# Altium integrated library Microchip PIC12.IntLib: 457 symbols (part 5 of 15)
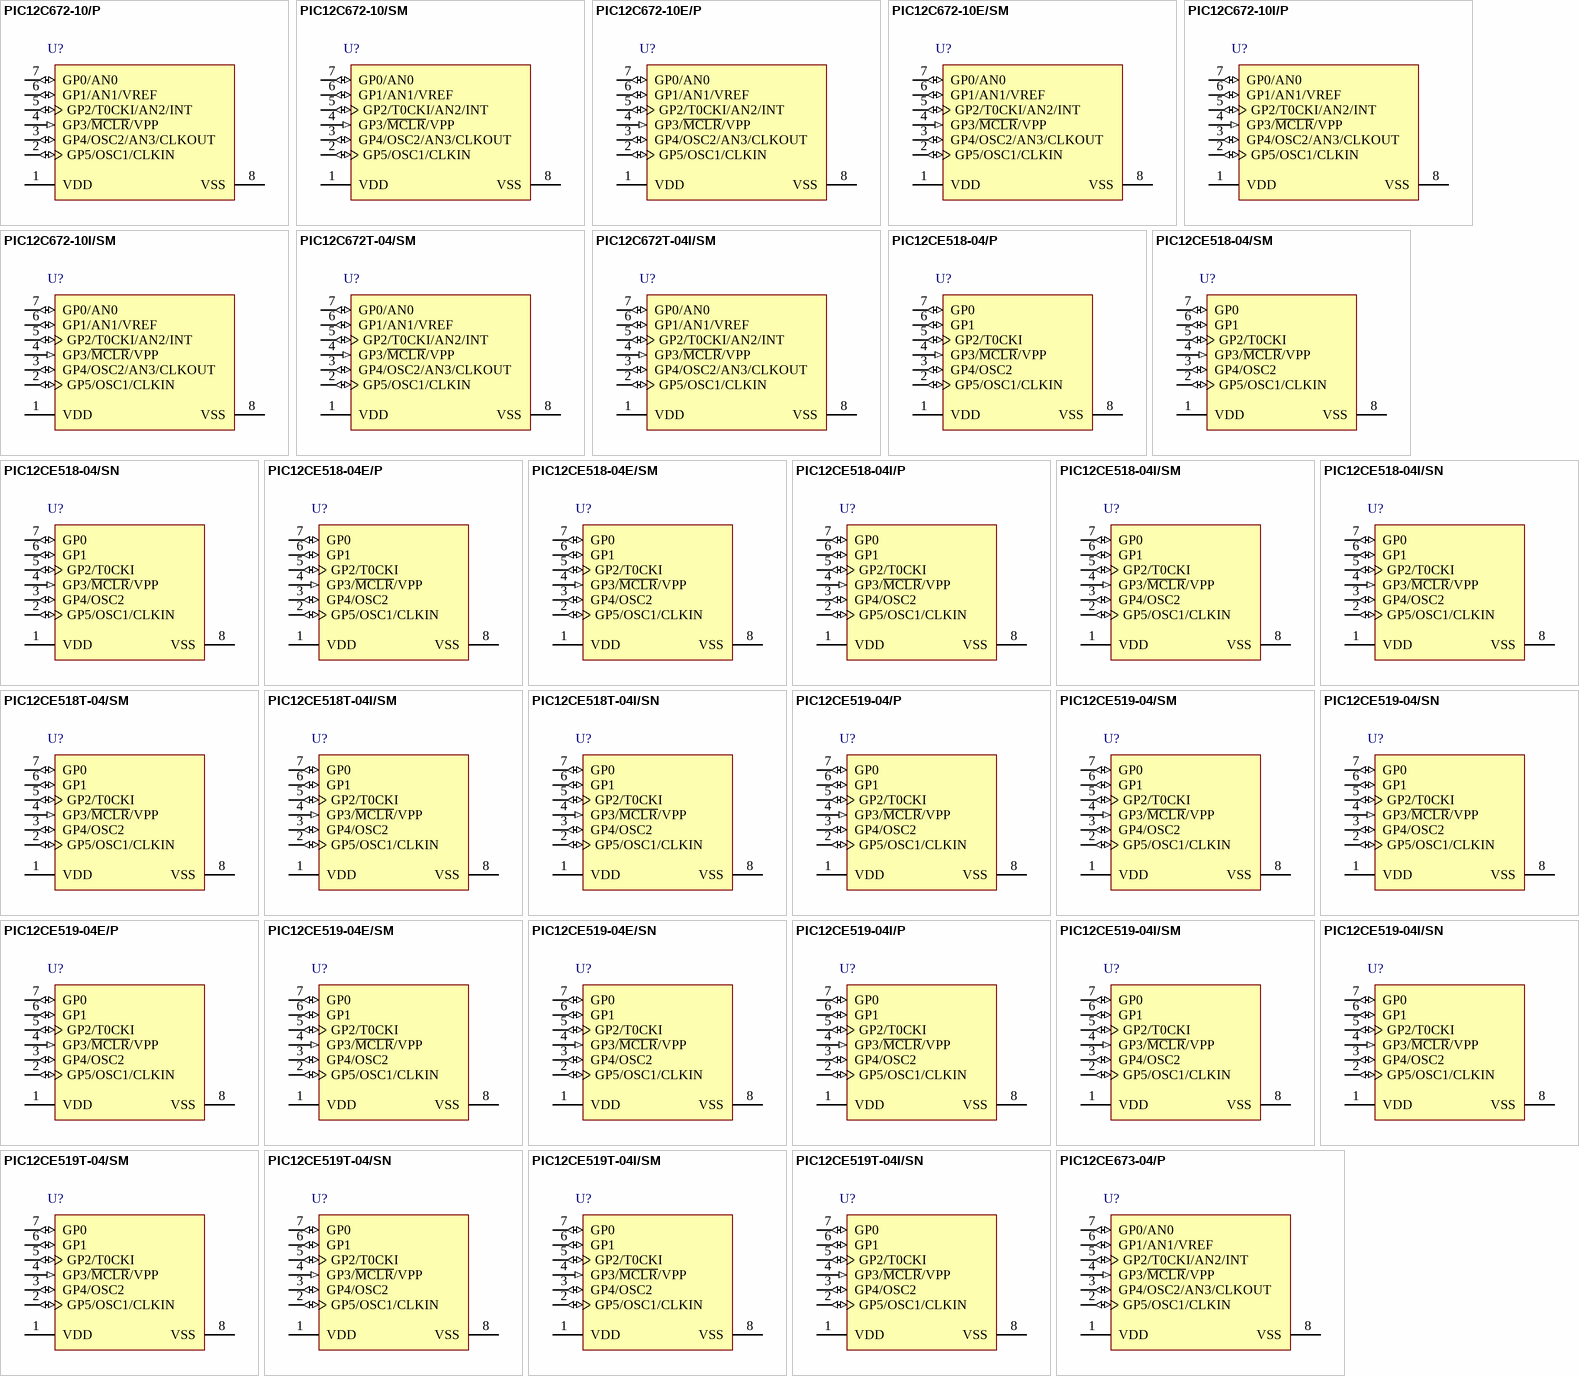
[diagram p19: symbols PIC12C672-10/P to PIC12CE673-04/P]

## PIC12CE519T-04I/SM
designator U?
8-Bit CMOS Microcontroller, 4 MHz, 5 I/O, -40 to 85 degC, 8-pin SOIC (SM8), Tape and Reel; Manufacturer: Microchip; PartNumber: PIC12CE519T-04I/SM; Digital Communication: 0 -UART, 0 -A/E/USART, 0 -SPI, 0 -I2C; EEPROM Data Memory (bytes): 16; I/O Pins: 5; Max. CPU Speed MHz: 4; Memory Type: OTP; Operation Voltage Range: 3V - 5.5V; Packing: T/R; Program Memory KBytes: 1.5; Program Memory KWords: 1; RAM: 41; Timers: 1 - 8-bit; DatasheetVersion: Rev. E; PackageVersion: C04-056C, 12/2012; PackageReference: SOIC-SM8; PackageDescription: 8-Lead Plastic Small Outline, 5.26 x 5.25 mm Body, 1.27 mm Pitch; Supplier 1: Digi-Key; Supplier Part Number 1: PIC12CE519T-04ISM-ND; Supplier 2: Mouser; Supplier Part Number 2: 579-12CE519T-04I/SM; RoHS: TRUE; Mounting Technology: Surface Mount; ComponentLink1Description: Datasheet; ComponentLink1URL: http://ww1.microchip.com/downloads/en/DeviceDoc/40139e.pdf; ComponentLink2Description: Package Specification; ComponentLink2URL: http://www.microchip.com/stellent/groups/techpub_sg/documents/packagingspec/en012702.pdf; ComponentLink3Description: URL Link1; ComponentLink3URL: Product URL:http://www.microchip.com/datasheet/PIC12CE519
footprint MCHP-SOIC-SM8_N (SOIC, 8-Leads, Body 5.26x5.25mm, Pitch 1.27mm, IPC Medium Density)
footprint MCHP-SOIC-SM8_L (SOIC, 8-Leads, Body 5.26x5.25mm, Pitch 1.27mm, IPC High Density)
footprint MCHP-SOIC-SM8_M (SOIC, 8-Leads, Body 5.26x5.25mm, Pitch 1.27mm, IPC Low Density)
pins: 1 VDD (power) "Positive supply for logic and I/O pins", 2 GP5/OSC1/CLKIN (io), 3 GP4/OSC2 (io), 4 GP3/~{MCLR}/VPP (in), 5 GP2/T0CKI (io), 6 GP1 (io) "Bi-directional I/O port/ serial programming clock. Can be software programmed for internal weak pull-up and wake-up from SLEEP on pin change. This buffer is a Schmitt Trigger input when used in serial programming mode.", 7 GP0 (io) "Bi-directional I/O port/ serial programming data. Can be software programmed for internal weak pull-up and wake-up from SLEEP on pin change. This buffer is a Schmitt Trigger input when used in serial programming mode.", 8 VSS (power) "Ground reference for logic and I/O pins"

## PIC12CE519T-04I/SN
designator U?
8-Bit CMOS Microcontroller, 4 MHz, 5 I/O, -40 to 85 degC, 8-pin SOIC (SN8), Tape and Reel; Manufacturer: Microchip; PartNumber: PIC12CE519T-04I/SN; Digital Communication: 0 -UART, 0 -A/E/USART, 0 -SPI, 0 -I2C; EEPROM Data Memory (bytes): 16; I/O Pins: 5; Max. CPU Speed MHz: 4; Memory Type: OTP; Operation Voltage Range: 3V - 5.5V; Packing: T/R; Program Memory KBytes: 1.5; Program Memory KWords: 1; RAM: 41; Timers: 1 - 8-bit; DatasheetVersion: Rev. E; PackageVersion: C04-057C, 12/2012; PackageReference: SOIC-SN8; PackageDescription: 8-Lead Plastic Small Outline, 4.9 x 3.9 mm Body, 1.27 mm Pitch; Supplier 1: Digi-Key; Supplier Part Number 1: PIC12CE519T-04ISN-ND; Supplier 2: Mouser; Supplier Part Number 2: 579-12CE519T-04I/SN; RoHS: TRUE; Mounting Technology: Surface Mount; ComponentLink1Description: Datasheet; ComponentLink1URL: http://ww1.microchip.com/downloads/en/DeviceDoc/40139e.pdf; ComponentLink2Description: Package Specification; ComponentLink2URL: http://www.microchip.com/stellent/groups/techpub_sg/documents/packagingspec/en012702.pdf; ComponentLink3Description: URL Link1; ComponentLink3URL: Product URL:http://www.microchip.com/datasheet/PIC12CE519
footprint MCHP-SOIC-SN8_N (SOIC, 8-Leads, Body 4.9x3.9mm, Pitch 1.27mm, IPC Medium Density)
footprint MCHP-SOIC-SN8_L (SOIC, 8-Leads, Body 4.9x3.9mm, Pitch 1.27mm, IPC High Density)
footprint MCHP-SOIC-SN8_M (SOIC, 8-Leads, Body 4.9x3.9mm, Pitch 1.27mm, IPC Low Density)
pins: 1 VDD (power) "Positive supply for logic and I/O pins", 2 GP5/OSC1/CLKIN (io), 3 GP4/OSC2 (io), 4 GP3/~{MCLR}/VPP (in), 5 GP2/T0CKI (io), 6 GP1 (io) "Bi-directional I/O port/ serial programming clock. Can be software programmed for internal weak pull-up and wake-up from SLEEP on pin change. This buffer is a Schmitt Trigger input when used in serial programming mode.", 7 GP0 (io) "Bi-directional I/O port/ serial programming data. Can be software programmed for internal weak pull-up and wake-up from SLEEP on pin change. This buffer is a Schmitt Trigger input when used in serial programming mode.", 8 VSS (power) "Ground reference for logic and I/O pins"

## PIC12CE673-04/P
designator U?
8-Bit CMOS Microcontroller with A/D Converter and EEPROM Data Memory, 4 MHz, 5 I/O, 0 to 70 degC, 8-pin PDIP (P8), Tube; Manufacturer: Microchip; PartNumber: PIC12CE673-04/P; # of A/D Channels: 4; Digital Communication: 0 -UART, 0 -A/E/USART, 0 -SPI, 0 -I2C; EEPROM Data Memory (bytes): 16; I/O Pins: 5; Internal Oscillator: 4 MHz; Memory Type: Flash; Operation Voltage Range: 3V - 5.5V; Program Memory KBytes: 1.75; Program Memory KWords: 1; RAM: 128; Timers: 1 - 8-bit, 0 - 16-bit; DatasheetVersion: Rev. C; PackageVersion: C04-018B, 12/2012; PackageReference: PDIP-P8; PackageDescription: 8-Lead Plastic Dual In-Line, Row Spacing 7.62 mm, 9.5 x 6.6 mm Body, 2.54 mm Pitch; Supplier 1: Digi-Key; Supplier Part Number 1: PIC12CE673-04/P-ND; Supplier 2: Farnell; Supplier Part Number 2: 9758968; Supplier 3: Newark; Supplier Part Number 3: 23C2916; Supplier 4: Mouser; Supplier Part Number 4: 579-PIC12CE673-04/P; Max. CPU Speed MHz: 4; Packing: TUBE; RoHS: TRUE; Mounting Technology: Through Hole; ComponentLink1Description: Datasheet; ComponentLink1URL: http://ww1.microchip.com/downloads/en/DeviceDoc/30561C.pdf; ComponentLink2Description: Package Specification; ComponentLink2URL: http://www.microchip.com/stellent/groups/techpub_sg/documents/packagingspec/en012702.pdf; ComponentLink3Description: URL Link1; ComponentLink3URL: Product URL:http://www.microchip.com/datasheet/PIC12CE673
footprint MCHP-PDIP-P8 (PDIP, 8-Leads, Body 9.5x6.604mm, Pitch 2.54mm)
pins: 1 VDD (power) "Positive supply for logic and I/O pins.", 2 GP5/OSC1/CLKIN (io), 3 GP4/OSC2/AN3/CLKOUT (io), 4 GP3/~{MCLR}/VPP (in), 5 GP2/T0CKI/AN2/INT (io), 6 GP1/AN1/VREF (io), 7 GP0/AN0 (io), 8 VSS (power) "Ground reference for logic and I/O pins."

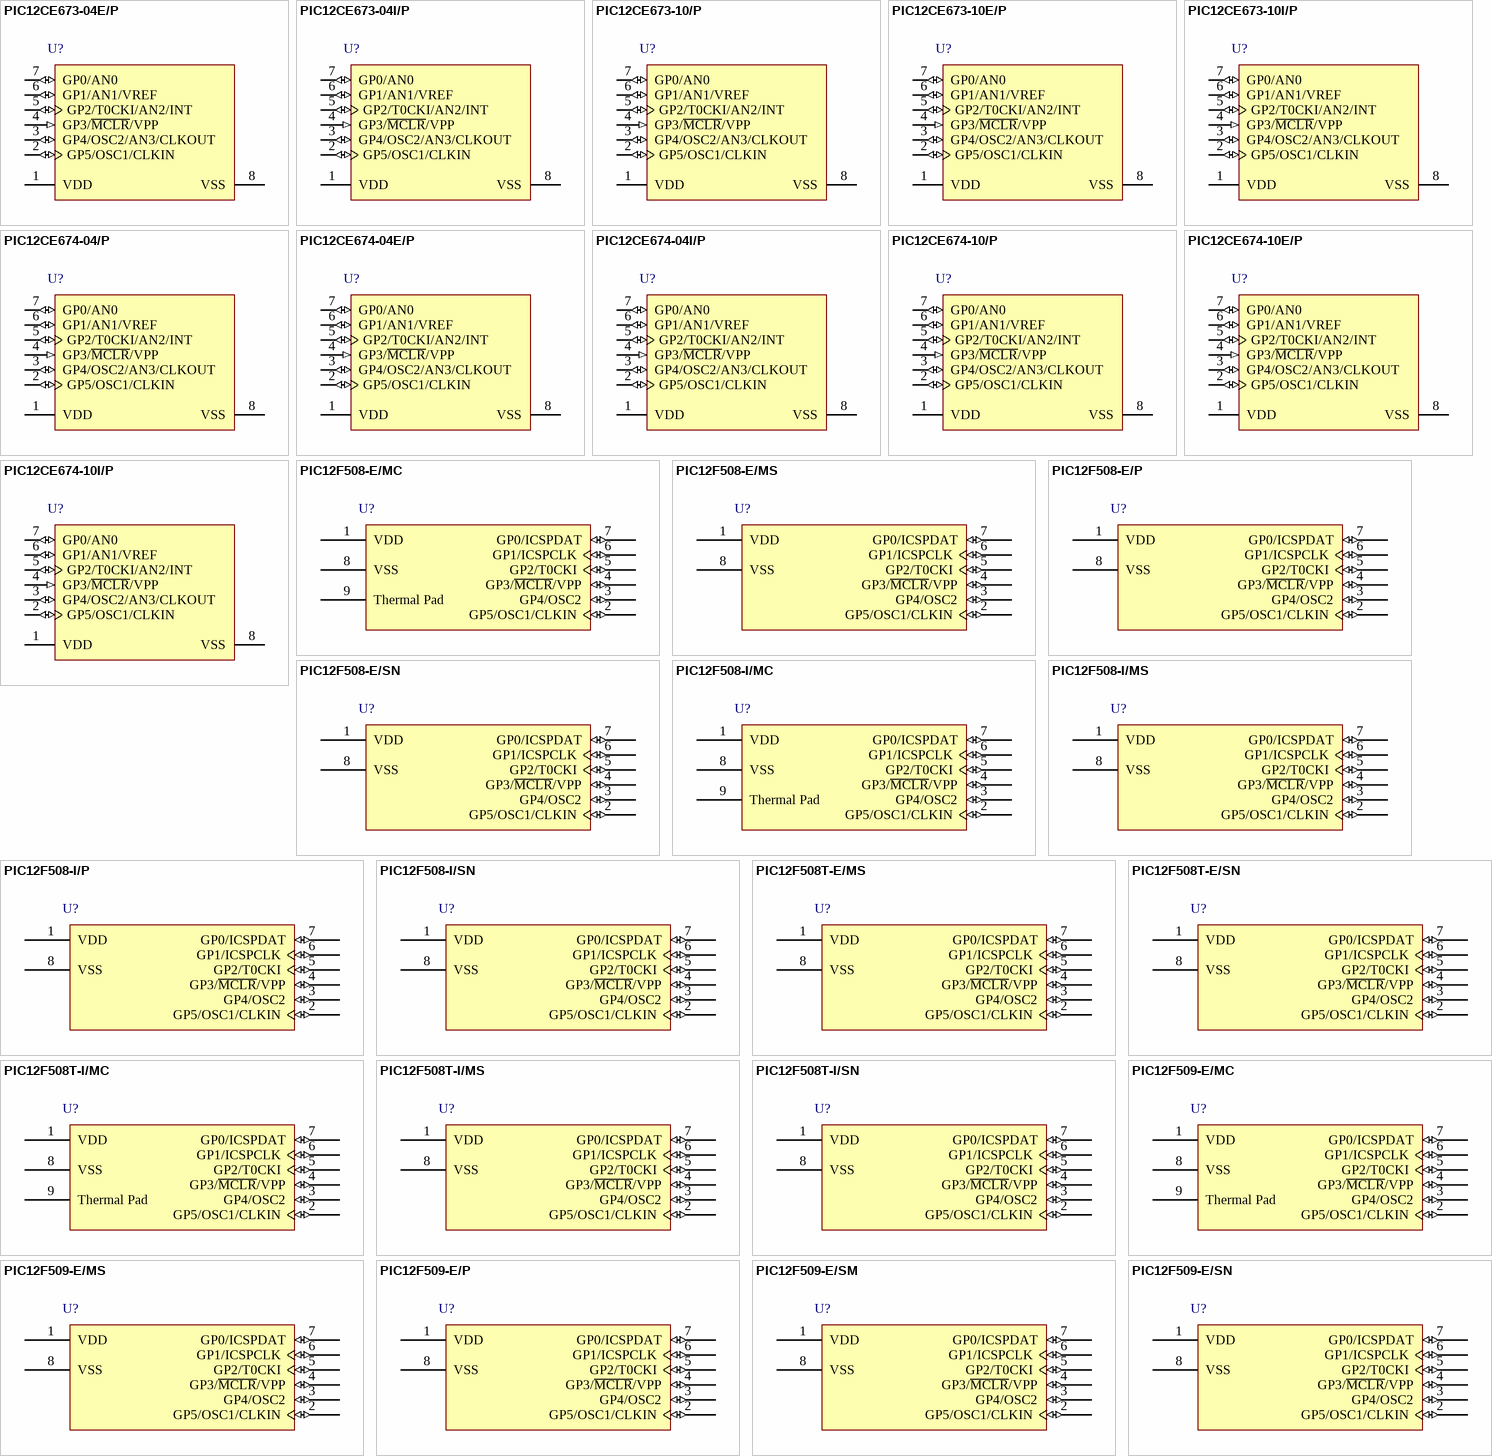
[diagram p3: symbols PIC12CE673-04E/P to PIC12F509-E/SN]

## PIC12CE673-04E/P
designator U?
8-Bit CMOS Microcontroller with A/D Converter and EEPROM Data Memory, 4 MHz, 5 I/O, -40 to 125 degC, 8-pin PDIP (P8), Tube; Manufacturer: Microchip; PartNumber: PIC12CE673-04E/P; # of A/D Channels: 4; Digital Communication: 0 -UART, 0 -A/E/USART, 0 -SPI, 0 -I2C; EEPROM Data Memory (bytes): 16; I/O Pins: 5; Internal Oscillator: 4 MHz; Memory Type: Flash; Operation Voltage Range: 3V - 5.5V; Program Memory KBytes: 1.75; Program Memory KWords: 1; RAM: 128; Timers: 1 - 8-bit, 0 - 16-bit; DatasheetVersion: Rev. C; PackageVersion: C04-018B, 12/2012; PackageReference: PDIP-P8; PackageDescription: 8-Lead Plastic Dual In-Line, Row Spacing 7.62 mm, 9.5 x 6.6 mm Body, 2.54 mm Pitch; Supplier 1: Digi-Key; Supplier Part Number 1: PIC12CE673-04E/P-ND; Supplier 2: Mouser; Supplier Part Number 2: 579-PIC12CE673-04E/P; Max. CPU Speed MHz: 4; Packing: TUBE; RoHS: TRUE; Mounting Technology: Through Hole; ComponentLink1Description: Datasheet; ComponentLink1URL: http://ww1.microchip.com/downloads/en/DeviceDoc/30561C.pdf; ComponentLink2Description: Package Specification; ComponentLink2URL: http://www.microchip.com/stellent/groups/techpub_sg/documents/packagingspec/en012702.pdf; ComponentLink3Description: URL Link1; ComponentLink3URL: Product URL:http://www.microchip.com/datasheet/PIC12CE673
footprint MCHP-PDIP-P8 (PDIP, 8-Leads, Body 9.5x6.604mm, Pitch 2.54mm)
pins: 1 VDD (power) "Positive supply for logic and I/O pins.", 2 GP5/OSC1/CLKIN (io), 3 GP4/OSC2/AN3/CLKOUT (io), 4 GP3/~{MCLR}/VPP (in), 5 GP2/T0CKI/AN2/INT (io), 6 GP1/AN1/VREF (io), 7 GP0/AN0 (io), 8 VSS (power) "Ground reference for logic and I/O pins."

## PIC12CE673-04I/P
designator U?
8-Bit CMOS Microcontroller with A/D Converter and EEPROM Data Memory, 4 MHz, 5 I/O, -40 to 85 degC, 8-pin PDIP (P8), Tube; Manufacturer: Microchip; PartNumber: PIC12CE673-04I/P; # of A/D Channels: 4; Digital Communication: 0 -UART, 0 -A/E/USART, 0 -SPI, 0 -I2C; EEPROM Data Memory (bytes): 16; I/O Pins: 5; Internal Oscillator: 4 MHz; Memory Type: Flash; Operation Voltage Range: 3V - 5.5V; Program Memory KBytes: 1.75; Program Memory KWords: 1; RAM: 128; Timers: 1 - 8-bit, 0 - 16-bit; DatasheetVersion: Rev. C; PackageVersion: C04-018B, 12/2012; PackageReference: PDIP-P8; PackageDescription: 8-Lead Plastic Dual In-Line, Row Spacing 7.62 mm, 9.5 x 6.6 mm Body, 2.54 mm Pitch; Supplier 1: Digi-Key; Supplier Part Number 1: PIC12CE673-04I/P-ND; Supplier 2: Farnell; Supplier Part Number 2: 1084242; Supplier 3: Newark; Supplier Part Number 3: 24M5838; Supplier 4: Mouser; Supplier Part Number 4: 579-PIC12CE673-04I/P; Max. CPU Speed MHz: 4; Packing: TUBE; RoHS: TRUE; Mounting Technology: Through Hole; ComponentLink1Description: Datasheet; ComponentLink1URL: http://ww1.microchip.com/downloads/en/DeviceDoc/30561C.pdf; ComponentLink2Description: Package Specification; ComponentLink2URL: http://www.microchip.com/stellent/groups/techpub_sg/documents/packagingspec/en012702.pdf; ComponentLink3Description: URL Link1; ComponentLink3URL: Product URL:http://www.microchip.com/datasheet/PIC12CE673
footprint MCHP-PDIP-P8 (PDIP, 8-Leads, Body 9.5x6.604mm, Pitch 2.54mm)
pins: 1 VDD (power) "Positive supply for logic and I/O pins.", 2 GP5/OSC1/CLKIN (io), 3 GP4/OSC2/AN3/CLKOUT (io), 4 GP3/~{MCLR}/VPP (in), 5 GP2/T0CKI/AN2/INT (io), 6 GP1/AN1/VREF (io), 7 GP0/AN0 (io), 8 VSS (power) "Ground reference for logic and I/O pins."

## PIC12CE673-10/P
designator U?
8-Bit CMOS Microcontroller with A/D Converter and EEPROM Data Memory, 10 MHz, 5 I/O, 0 to 70 degC, 8-pin PDIP (P8), Tube; Manufacturer: Microchip; PartNumber: PIC12CE673-10/P; # of A/D Channels: 4; Digital Communication: 0 -UART, 0 -A/E/USART, 0 -SPI, 0 -I2C; EEPROM Data Memory (bytes): 16; I/O Pins: 5; Internal Oscillator: 4 MHz; Max. CPU Speed MHz: 10; Memory Type: Flash; Operation Voltage Range: 3V - 5.5V; Program Memory KBytes: 1.75; Program Memory KWords: 1; RAM: 128; Timers: 1 - 8-bit, 0 - 16-bit; DatasheetVersion: Rev. C; PackageVersion: C04-018B, 12/2012; PackageReference: PDIP-P8; PackageDescription: 8-Lead Plastic Dual In-Line, Row Spacing 7.62 mm, 9.5 x 6.6 mm Body, 2.54 mm Pitch; Supplier 1: Digi-Key; Supplier Part Number 1: PIC12CE673-10/P-ND; Supplier 2: Mouser; Supplier Part Number 2: 579-PIC12CE673-10/P; Packing: TUBE; RoHS: TRUE; Mounting Technology: Through Hole; ComponentLink1Description: Datasheet; ComponentLink1URL: http://ww1.microchip.com/downloads/en/DeviceDoc/30561C.pdf; ComponentLink2Description: Package Specification; ComponentLink2URL: http://www.microchip.com/stellent/groups/techpub_sg/documents/packagingspec/en012702.pdf; ComponentLink3Description: URL Link1; ComponentLink3URL: Product URL:http://www.microchip.com/datasheet/PIC12CE673
footprint MCHP-PDIP-P8 (PDIP, 8-Leads, Body 9.5x6.604mm, Pitch 2.54mm)
pins: 1 VDD (power) "Positive supply for logic and I/O pins.", 2 GP5/OSC1/CLKIN (io), 3 GP4/OSC2/AN3/CLKOUT (io), 4 GP3/~{MCLR}/VPP (in), 5 GP2/T0CKI/AN2/INT (io), 6 GP1/AN1/VREF (io), 7 GP0/AN0 (io), 8 VSS (power) "Ground reference for logic and I/O pins."

## PIC12CE673-10E/P
designator U?
8-Bit CMOS Microcontroller with A/D Converter and EEPROM Data Memory, 10 MHz, 5 I/O, -40 to 125 degC, 8-pin PDIP (P8), Tube; Manufacturer: Microchip; PartNumber: PIC12CE673-10E/P; # of A/D Channels: 4; Digital Communication: 0 -UART, 0 -A/E/USART, 0 -SPI, 0 -I2C; EEPROM Data Memory (bytes): 16; I/O Pins: 5; Internal Oscillator: 4 MHz; Max. CPU Speed MHz: 10; Memory Type: Flash; Operation Voltage Range: 3V - 5.5V; Program Memory KBytes: 1.75; Program Memory KWords: 1; RAM: 128; Timers: 1 - 8-bit, 0 - 16-bit; DatasheetVersion: Rev. C; PackageVersion: C04-018B, 12/2012; PackageReference: PDIP-P8; PackageDescription: 8-Lead Plastic Dual In-Line, Row Spacing 7.62 mm, 9.5 x 6.6 mm Body, 2.54 mm Pitch; Supplier 1: Digi-Key; Supplier Part Number 1: PIC12CE673-10E/P-ND; Supplier 2: Mouser; Supplier Part Number 2: 579-PIC12CE673-10E/P; Packing: TUBE; RoHS: TRUE; Mounting Technology: Through Hole; ComponentLink1Description: Datasheet; ComponentLink1URL: http://ww1.microchip.com/downloads/en/DeviceDoc/30561C.pdf; ComponentLink2Description: Package Specification; ComponentLink2URL: http://www.microchip.com/stellent/groups/techpub_sg/documents/packagingspec/en012702.pdf; ComponentLink3Description: URL Link1; ComponentLink3URL: Product URL:http://www.microchip.com/datasheet/PIC12CE673
footprint MCHP-PDIP-P8 (PDIP, 8-Leads, Body 9.5x6.604mm, Pitch 2.54mm)
pins: 1 VDD (power) "Positive supply for logic and I/O pins.", 2 GP5/OSC1/CLKIN (io), 3 GP4/OSC2/AN3/CLKOUT (io), 4 GP3/~{MCLR}/VPP (in), 5 GP2/T0CKI/AN2/INT (io), 6 GP1/AN1/VREF (io), 7 GP0/AN0 (io), 8 VSS (power) "Ground reference for logic and I/O pins."

## PIC12CE673-10I/P
designator U?
8-Bit CMOS Microcontroller with A/D Converter and EEPROM Data Memory, 10 MHz, 5 I/O, -40 to 85 degC, 8-pin PDIP (P8), Tube; Manufacturer: Microchip; PartNumber: PIC12CE673-10I/P; # of A/D Channels: 4; Digital Communication: 0 -UART, 0 -A/E/USART, 0 -SPI, 0 -I2C; EEPROM Data Memory (bytes): 16; I/O Pins: 5; Internal Oscillator: 4 MHz; Max. CPU Speed MHz: 10; Memory Type: Flash; Operation Voltage Range: 3V - 5.5V; Program Memory KBytes: 1.75; Program Memory KWords: 1; RAM: 128; Timers: 1 - 8-bit, 0 - 16-bit; DatasheetVersion: Rev. C; PackageVersion: C04-018B, 12/2012; PackageReference: PDIP-P8; PackageDescription: 8-Lead Plastic Dual In-Line, Row Spacing 7.62 mm, 9.5 x 6.6 mm Body, 2.54 mm Pitch; Supplier 1: Digi-Key; Supplier Part Number 1: PIC12CE673-10I/P-ND; Supplier 2: Mouser; Supplier Part Number 2: 579-PIC12CE673-10I/P; Packing: TUBE; RoHS: TRUE; Mounting Technology: Through Hole; ComponentLink1Description: Datasheet; ComponentLink1URL: http://ww1.microchip.com/downloads/en/DeviceDoc/30561C.pdf; ComponentLink2Description: Package Specification; ComponentLink2URL: http://www.microchip.com/stellent/groups/techpub_sg/documents/packagingspec/en012702.pdf; ComponentLink3Description: URL Link1; ComponentLink3URL: Product URL:http://www.microchip.com/datasheet/PIC12CE673
footprint MCHP-PDIP-P8 (PDIP, 8-Leads, Body 9.5x6.604mm, Pitch 2.54mm)
pins: 1 VDD (power) "Positive supply for logic and I/O pins.", 2 GP5/OSC1/CLKIN (io), 3 GP4/OSC2/AN3/CLKOUT (io), 4 GP3/~{MCLR}/VPP (in), 5 GP2/T0CKI/AN2/INT (io), 6 GP1/AN1/VREF (io), 7 GP0/AN0 (io), 8 VSS (power) "Ground reference for logic and I/O pins."

## PIC12CE674-04/P
designator U?
8-Bit CMOS Microcontroller with A/D Converter and EEPROM Data Memory, 4 MHz, 5 I/O, 0 to 70 degC, 8-pin PDIP (P8), Tube; Manufacturer: Microchip; PartNumber: PIC12CE674-04/P; # of A/D Channels: 4; Digital Communication: 0 -UART, 0 -A/E/USART, 0 -SPI, 0 -I2C; EEPROM Data Memory (bytes): 16; I/O Pins: 5; Internal Oscillator: 4 MHz; Memory Type: Flash; Operation Voltage Range: 3V - 5.5V; Program Memory KBytes: 3.5; Program Memory KWords: 2; RAM: 128; Timers: 1 - 8-bit, 0 - 16-bit; DatasheetVersion: Rev. C; PackageVersion: C04-018B, 12/2012; PackageReference: PDIP-P8; PackageDescription: 8-Lead Plastic Dual In-Line, Row Spacing 7.62 mm, 9.5 x 6.6 mm Body, 2.54 mm Pitch; Supplier 1: Digi-Key; Supplier Part Number 1: PIC12CE674-04/P-ND; Supplier 2: Farnell; Supplier Part Number 2: 9758976; Supplier 3: Newark; Supplier Part Number 3: 23C2923; Supplier 4: Mouser; Supplier Part Number 4: 579-PIC12CE674-04/P; Max. CPU Speed MHz: 4; Packing: TUBE; RoHS: TRUE; Mounting Technology: Through Hole; ComponentLink1Description: Datasheet; ComponentLink1URL: http://ww1.microchip.com/downloads/en/DeviceDoc/30561C.pdf; ComponentLink2Description: Package Specification; ComponentLink2URL: http://www.microchip.com/stellent/groups/techpub_sg/documents/packagingspec/en012702.pdf; ComponentLink3Description: URL Link1; ComponentLink3URL: Product URL:http://www.microchip.com/datasheet/PIC12CE674
footprint MCHP-PDIP-P8 (PDIP, 8-Leads, Body 9.5x6.604mm, Pitch 2.54mm)
pins: 1 VDD (power) "Positive supply for logic and I/O pins.", 2 GP5/OSC1/CLKIN (io), 3 GP4/OSC2/AN3/CLKOUT (io), 4 GP3/~{MCLR}/VPP (in), 5 GP2/T0CKI/AN2/INT (io), 6 GP1/AN1/VREF (io), 7 GP0/AN0 (io), 8 VSS (power) "Ground reference for logic and I/O pins."

## PIC12CE674-04E/P
designator U?
8-Bit CMOS Microcontroller with A/D Converter and EEPROM Data Memory, 4 MHz, 5 I/O, -40 to 125 degC, 8-pin PDIP (P8), Tube; Manufacturer: Microchip; PartNumber: PIC12CE674-04E/P; # of A/D Channels: 4; Digital Communication: 0 -UART, 0 -A/E/USART, 0 -SPI, 0 -I2C; EEPROM Data Memory (bytes): 16; I/O Pins: 5; Internal Oscillator: 4 MHz; Memory Type: Flash; Operation Voltage Range: 3V - 5.5V; Program Memory KBytes: 3.5; Program Memory KWords: 2; RAM: 128; Timers: 1 - 8-bit, 0 - 16-bit; DatasheetVersion: Rev. C; PackageVersion: C04-018B, 12/2012; PackageReference: PDIP-P8; PackageDescription: 8-Lead Plastic Dual In-Line, Row Spacing 7.62 mm, 9.5 x 6.6 mm Body, 2.54 mm Pitch; Supplier 1: Digi-Key; Supplier Part Number 1: PIC12CE674-04E/P-ND; Supplier 2: Mouser; Supplier Part Number 2: 579-PIC12CE674-04E/P; Max. CPU Speed MHz: 4; Packing: TUBE; RoHS: TRUE; Mounting Technology: Through Hole; ComponentLink1Description: Datasheet; ComponentLink1URL: http://ww1.microchip.com/downloads/en/DeviceDoc/30561C.pdf; ComponentLink2Description: Package Specification; ComponentLink2URL: http://www.microchip.com/stellent/groups/techpub_sg/documents/packagingspec/en012702.pdf; ComponentLink3Description: URL Link1; ComponentLink3URL: Product URL:http://www.microchip.com/datasheet/PIC12CE674
footprint MCHP-PDIP-P8 (PDIP, 8-Leads, Body 9.5x6.604mm, Pitch 2.54mm)
pins: 1 VDD (power) "Positive supply for logic and I/O pins.", 2 GP5/OSC1/CLKIN (io), 3 GP4/OSC2/AN3/CLKOUT (io), 4 GP3/~{MCLR}/VPP (in), 5 GP2/T0CKI/AN2/INT (io), 6 GP1/AN1/VREF (io), 7 GP0/AN0 (io), 8 VSS (power) "Ground reference for logic and I/O pins."

## PIC12CE674-04I/P
designator U?
8-Bit CMOS Microcontroller with A/D Converter and EEPROM Data Memory, 4 MHz, 5 I/O, -40 to 85 degC, 8-pin PDIP (P8), Tube; Manufacturer: Microchip; PartNumber: PIC12CE674-04I/P; # of A/D Channels: 4; Digital Communication: 0 -UART, 0 -A/E/USART, 0 -SPI, 0 -I2C; EEPROM Data Memory (bytes): 16; I/O Pins: 5; Internal Oscillator: 4 MHz; Memory Type: Flash; Operation Voltage Range: 3V - 5.5V; Program Memory KBytes: 3.5; Program Memory KWords: 2; RAM: 128; Timers: 1 - 8-bit, 0 - 16-bit; DatasheetVersion: Rev. C; PackageVersion: C04-018B, 12/2012; PackageReference: PDIP-P8; PackageDescription: 8-Lead Plastic Dual In-Line, Row Spacing 7.62 mm, 9.5 x 6.6 mm Body, 2.54 mm Pitch; Supplier 1: Digi-Key; Supplier Part Number 1: PIC12CE674-04I/P-ND; Supplier 2: Farnell; Supplier Part Number 2: 9758984; Supplier 3: Newark; Supplier Part Number 3: 97K7139; Supplier 4: Newark; Supplier Part Number 4: 23C2925; Supplier 5: Mouser; Supplier Part Number 5: 579-PIC12CE674-04I/P; Max. CPU Speed MHz: 4; Packing: TUBE; RoHS: TRUE; Mounting Technology: Through Hole; ComponentLink1Description: Datasheet; ComponentLink1URL: http://ww1.microchip.com/downloads/en/DeviceDoc/30561C.pdf; ComponentLink2Description: Package Specification; ComponentLink2URL: http://www.microchip.com/stellent/groups/techpub_sg/documents/packagingspec/en012702.pdf; ComponentLink3Description: URL Link1; ComponentLink3URL: Product URL:http://www.microchip.com/datasheet/PIC12CE674
footprint MCHP-PDIP-P8 (PDIP, 8-Leads, Body 9.5x6.604mm, Pitch 2.54mm)
pins: 1 VDD (power) "Positive supply for logic and I/O pins.", 2 GP5/OSC1/CLKIN (io), 3 GP4/OSC2/AN3/CLKOUT (io), 4 GP3/~{MCLR}/VPP (in), 5 GP2/T0CKI/AN2/INT (io), 6 GP1/AN1/VREF (io), 7 GP0/AN0 (io), 8 VSS (power) "Ground reference for logic and I/O pins."

## PIC12CE674-10/P
designator U?
8-Bit CMOS Microcontroller with A/D Converter and EEPROM Data Memory, 10 MHz, 5 I/O, 0 to 70 degC, 8-pin PDIP (P8), Tube; Manufacturer: Microchip; PartNumber: PIC12CE674-10/P; # of A/D Channels: 4; Digital Communication: 0 -UART, 0 -A/E/USART, 0 -SPI, 0 -I2C; EEPROM Data Memory (bytes): 16; I/O Pins: 5; Internal Oscillator: 4 MHz; Max. CPU Speed MHz: 10; Memory Type: Flash; Operation Voltage Range: 3V - 5.5V; Program Memory KBytes: 3.5; Program Memory KWords: 2; RAM: 128; Timers: 1 - 8-bit, 0 - 16-bit; DatasheetVersion: Rev. C; PackageVersion: C04-018B, 12/2012; PackageReference: PDIP-P8; PackageDescription: 8-Lead Plastic Dual In-Line, Row Spacing 7.62 mm, 9.5 x 6.6 mm Body, 2.54 mm Pitch; Supplier 1: Digi-Key; Supplier Part Number 1: PIC12CE674-10/P-ND; Supplier 2: Mouser; Supplier Part Number 2: 579-PIC12CE674-10/P; Packing: TUBE; RoHS: TRUE; Mounting Technology: Through Hole; ComponentLink1Description: Datasheet; ComponentLink1URL: http://ww1.microchip.com/downloads/en/DeviceDoc/30561C.pdf; ComponentLink2Description: Package Specification; ComponentLink2URL: http://www.microchip.com/stellent/groups/techpub_sg/documents/packagingspec/en012702.pdf; ComponentLink3Description: URL Link1; ComponentLink3URL: Product URL:http://www.microchip.com/datasheet/PIC12CE674
footprint MCHP-PDIP-P8 (PDIP, 8-Leads, Body 9.5x6.604mm, Pitch 2.54mm)
pins: 1 VDD (power) "Positive supply for logic and I/O pins.", 2 GP5/OSC1/CLKIN (io), 3 GP4/OSC2/AN3/CLKOUT (io), 4 GP3/~{MCLR}/VPP (in), 5 GP2/T0CKI/AN2/INT (io), 6 GP1/AN1/VREF (io), 7 GP0/AN0 (io), 8 VSS (power) "Ground reference for logic and I/O pins."

## PIC12CE674-10E/P
designator U?
8-Bit CMOS Microcontroller with A/D Converter and EEPROM Data Memory, 10 MHz, 5 I/O, -40 to 125 degC, 8-pin PDIP (P8), Tube; Manufacturer: Microchip; PartNumber: PIC12CE674-10E/P; # of A/D Channels: 4; Digital Communication: 0 -UART, 0 -A/E/USART, 0 -SPI, 0 -I2C; EEPROM Data Memory (bytes): 16; I/O Pins: 5; Internal Oscillator: 4 MHz; Max. CPU Speed MHz: 10; Memory Type: Flash; Operation Voltage Range: 3V - 5.5V; Program Memory KBytes: 3.5; Program Memory KWords: 2; RAM: 128; Timers: 1 - 8-bit, 0 - 16-bit; DatasheetVersion: Rev. C; PackageVersion: C04-018B, 12/2012; PackageReference: PDIP-P8; PackageDescription: 8-Lead Plastic Dual In-Line, Row Spacing 7.62 mm, 9.5 x 6.6 mm Body, 2.54 mm Pitch; Supplier 1: Digi-Key; Supplier Part Number 1: PIC12CE674-10E/P-ND; Supplier 2: Newark; Supplier Part Number 2: 23C2927; Supplier 3: Mouser; Supplier Part Number 3: 579-PIC12CE674-10E/P; Packing: TUBE; RoHS: TRUE; Mounting Technology: Through Hole; ComponentLink1Description: Datasheet; ComponentLink1URL: http://ww1.microchip.com/downloads/en/DeviceDoc/30561C.pdf; ComponentLink2Description: Package Specification; ComponentLink2URL: http://www.microchip.com/stellent/groups/techpub_sg/documents/packagingspec/en012702.pdf; ComponentLink3Description: URL Link1; ComponentLink3URL: Product URL:http://www.microchip.com/datasheet/PIC12CE674
footprint MCHP-PDIP-P8 (PDIP, 8-Leads, Body 9.5x6.604mm, Pitch 2.54mm)
pins: 1 VDD (power) "Positive supply for logic and I/O pins.", 2 GP5/OSC1/CLKIN (io), 3 GP4/OSC2/AN3/CLKOUT (io), 4 GP3/~{MCLR}/VPP (in), 5 GP2/T0CKI/AN2/INT (io), 6 GP1/AN1/VREF (io), 7 GP0/AN0 (io), 8 VSS (power) "Ground reference for logic and I/O pins."

## PIC12CE674-10I/P
designator U?
8-Bit CMOS Microcontroller with A/D Converter and EEPROM Data Memory, 10 MHz, 5 I/O, -40 to 85 degC, 8-pin PDIP (P8), Tube; Manufacturer: Microchip; PartNumber: PIC12CE674-10I/P; # of A/D Channels: 4; Digital Communication: 0 -UART, 0 -A/E/USART, 0 -SPI, 0 -I2C; EEPROM Data Memory (bytes): 16; I/O Pins: 5; Internal Oscillator: 4 MHz; Max. CPU Speed MHz: 10; Memory Type: Flash; Operation Voltage Range: 3V - 5.5V; Program Memory KBytes: 3.5; Program Memory KWords: 2; RAM: 128; Timers: 1 - 8-bit, 0 - 16-bit; DatasheetVersion: Rev. C; PackageVersion: C04-018B, 12/2012; PackageReference: PDIP-P8; PackageDescription: 8-Lead Plastic Dual In-Line, Row Spacing 7.62 mm, 9.5 x 6.6 mm Body, 2.54 mm Pitch; Supplier 1: Digi-Key; Supplier Part Number 1: PIC12CE674-10I/P-ND; Supplier 2: Mouser; Supplier Part Number 2: 579-PIC12CE674-10I/P; Packing: TUBE; RoHS: TRUE; Mounting Technology: Through Hole; ComponentLink1Description: Datasheet; ComponentLink1URL: http://ww1.microchip.com/downloads/en/DeviceDoc/30561C.pdf; ComponentLink2Description: Package Specification; ComponentLink2URL: http://www.microchip.com/stellent/groups/techpub_sg/documents/packagingspec/en012702.pdf; ComponentLink3Description: URL Link1; ComponentLink3URL: Product URL:http://www.microchip.com/datasheet/PIC12CE674
footprint MCHP-PDIP-P8 (PDIP, 8-Leads, Body 9.5x6.604mm, Pitch 2.54mm)
pins: 1 VDD (power) "Positive supply for logic and I/O pins.", 2 GP5/OSC1/CLKIN (io), 3 GP4/OSC2/AN3/CLKOUT (io), 4 GP3/~{MCLR}/VPP (in), 5 GP2/T0CKI/AN2/INT (io), 6 GP1/AN1/VREF (io), 7 GP0/AN0 (io), 8 VSS (power) "Ground reference for logic and I/O pins."

## PIC12F508-E/MC
designator U?
8-bit Flash Microcontroller, 512 (x12-Bit words) Program Memory, 25 Bytes Data Memory, 8-Pin DFN, Extended Temperature; Manufacturer: Microchip; PartNumber: PIC12F508-E/MC; DatasheetVersion: revE, Aug-2009; PackageVersion: revBB, Aug-2009; PackageReference: DFN-MC8; PackageDescription: 8-Lead Plastic Dual Flat, No Lead Package (MC) - 2x3x0.9mm Body [DFN]; ComponentLink1Description: Manufacturer URL; ComponentLink1URL: http://www.microchip.com/; ComponentLink2Description: Datasheet; ComponentLink2URL: http://ww1.microchip.com/downloads/en/DeviceDoc/41236E.pdf; ComponentLink3Description: Package Specification; ComponentLink3URL: http://www.microchip.com/stellent/groups/techpub_sg/documents/packagingspec/en012702.pdf
footprint DFN-MC8 (SON, 8-Leads, Body 2x3mm, Pitch 0.5mm, Microchip Recommended)
pins: 1 VDD (power), 2 GP5/OSC1/CLKIN (io), 3 GP4/OSC2 (io), 4 GP3/~{MCLR}/VPP (io), 5 GP2/T0CKI (io), 6 GP1/ICSPCLK (io), 7 GP0/ICSPDAT (io), 8 VSS (power), 9 Thermal Pad

## PIC12F508-E/MS
designator U?
8-bit Flash Microcontroller, 512 (x12-Bit words) Program Memory, 25 Bytes Data Memory, 8-Pin MSOP, Extended Temperature; Manufacturer: Microchip; PartNumber: PIC12F508-E/MS; DatasheetVersion: revE, Aug-2009; PackageVersion: revBB, Aug-2009; PackageReference: MSOP-MS8; PackageDescription: 8-Lead Plastic Micro Small Outline Package (MS) [MSOP]; ComponentLink1Description: Manufacturer URL; ComponentLink1URL: http://www.microchip.com/; ComponentLink2Description: Datasheet; ComponentLink2URL: http://ww1.microchip.com/downloads/en/DeviceDoc/41236E.pdf; ComponentLink3Description: Package Specification; ComponentLink3URL: http://www.microchip.com/stellent/groups/techpub_sg/documents/packagingspec/en012702.pdf
footprint MSOP-MS8_N (TSOP, 8-Leads, Body 3x3mm, Pitch 0.65mm, IPC Medium Density)
footprint MSOP-MS8_L (TSOP, 8-Leads, Body 3x3mm, Pitch 0.65mm, IPC High Density)
footprint MSOP-MS8_M (TSOP, 8-Leads, Body 3x3mm, Pitch 0.65mm, IPC Low Density)
pins: 1 VDD (power), 2 GP5/OSC1/CLKIN (io), 3 GP4/OSC2 (io), 4 GP3/~{MCLR}/VPP (io), 5 GP2/T0CKI (io), 6 GP1/ICSPCLK (io), 7 GP0/ICSPDAT (io), 8 VSS (power)

## PIC12F508-E/P
designator U?
8-bit Flash Microcontroller, 512 (x12-Bit words) Program Memory, 25 Bytes Data Memory, 8-Pin PDIP, Extended Temperature; Manufacturer: Microchip; PartNumber: PIC12F508-E/P; DatasheetVersion: revE, Aug-2009; PackageVersion: revBB, Aug-2009; PackageReference: PDIP300-P8; PackageDescription: 8-Lead Plastic Dual In-Line (P) - 300 mil Body [PDIP]; Code_JEDEC: MS-001; ComponentLink1Description: Manufacturer URL; ComponentLink1URL: http://www.microchip.com/; ComponentLink2Description: Datasheet; ComponentLink2URL: http://ww1.microchip.com/downloads/en/DeviceDoc/41236E.pdf; ComponentLink3Description: Package Specification; ComponentLink3URL: http://www.microchip.com/stellent/groups/techpub_sg/documents/packagingspec/en012702.pdf
footprint PDIP300-P8 (DIP, 8-Leads, Row Spacing 7.62mm, Pitch 2.54mm, Body 9.5x6.6mm)
pins: 1 VDD (power), 2 GP5/OSC1/CLKIN (io), 3 GP4/OSC2 (io), 4 GP3/~{MCLR}/VPP (io), 5 GP2/T0CKI (io), 6 GP1/ICSPCLK (io), 7 GP0/ICSPDAT (io), 8 VSS (power)

## PIC12F508-E/SN
designator U?
8-bit Flash Microcontroller, 512 (x12-Bit words) Program Memory, 25 Bytes Data Memory, 8-Pin SOIC, Extended Temperature; Manufacturer: Microchip; PartNumber: PIC12F508-E/SN; DatasheetVersion: revE, Aug-2009; PackageVersion: revBB, Aug-2009; PackageReference: SOIC-SN8; PackageDescription: 8-Lead Plastic Small Outline (SN) - Narrow, 3.90mm Body [SOIC]; Code_JEDEC: MS-012; Code_IPC: SOIC127P600-8; ComponentLink1Description: Manufacturer URL; ComponentLink1URL: http://www.microchip.com/; ComponentLink2Description: Datasheet; ComponentLink2URL: http://ww1.microchip.com/downloads/en/DeviceDoc/41236E.pdf; ComponentLink3Description: Package Specification; ComponentLink3URL: http://www.microchip.com/stellent/groups/techpub_sg/documents/packagingspec/en012702.pdf
footprint SOIC-SN8_N (SOIC, 8-Leads, Body 4.9x3.8mm, Pitch 1.27mm, IPC Medium Density)
footprint SOIC-SN8_L (SOIC, 8-Leads, Body 4.9x3.8mm, Pitch 1.27mm, IPC High Density)
footprint SOIC-SN8_M (SOIC, 8-Leads, Body 4.9x3.8mm, Pitch 1.27mm, IPC Low Density)
pins: 1 VDD (power), 2 GP5/OSC1/CLKIN (io), 3 GP4/OSC2 (io), 4 GP3/~{MCLR}/VPP (io), 5 GP2/T0CKI (io), 6 GP1/ICSPCLK (io), 7 GP0/ICSPDAT (io), 8 VSS (power)

## PIC12F508-I/MC
designator U?
8-bit Flash Microcontroller, 512 (x12-Bit words) Program Memory, 25 Bytes Data Memory, 8-Pin DFN, Industrial Temperature; Manufacturer: Microchip; PartNumber: PIC12F508-I/MC; DatasheetVersion: revE, Aug-2009; PackageVersion: revBB, Aug-2009; PackageReference: DFN-MC8; PackageDescription: 8-Lead Plastic Dual Flat, No Lead Package (MC) - 2x3x0.9mm Body [DFN]; ComponentLink1Description: Manufacturer URL; ComponentLink1URL: http://www.microchip.com/; ComponentLink2Description: Datasheet; ComponentLink2URL: http://ww1.microchip.com/downloads/en/DeviceDoc/41236E.pdf; ComponentLink3Description: Package Specification; ComponentLink3URL: http://www.microchip.com/stellent/groups/techpub_sg/documents/packagingspec/en012702.pdf
footprint DFN-MC8 (SON, 8-Leads, Body 2x3mm, Pitch 0.5mm, Microchip Recommended)
pins: 1 VDD (power), 2 GP5/OSC1/CLKIN (io), 3 GP4/OSC2 (io), 4 GP3/~{MCLR}/VPP (io), 5 GP2/T0CKI (io), 6 GP1/ICSPCLK (io), 7 GP0/ICSPDAT (io), 8 VSS (power), 9 Thermal Pad

## PIC12F508-I/MS
designator U?
8-bit Flash Microcontroller, 512 (x12-Bit words) Program Memory, 25 Bytes Data Memory, 8-Pin MSOP, Industrial Temperature; Manufacturer: Microchip; PartNumber: PIC12F508-I/MS; DatasheetVersion: revE, Aug-2009; PackageVersion: revBB, Aug-2009; PackageReference: MSOP-MS8; PackageDescription: 8-Lead Plastic Micro Small Outline Package (MS) [MSOP]; ComponentLink1Description: Manufacturer URL; ComponentLink1URL: http://www.microchip.com/; ComponentLink2Description: Datasheet; ComponentLink2URL: http://ww1.microchip.com/downloads/en/DeviceDoc/41236E.pdf; ComponentLink3Description: Package Specification; ComponentLink3URL: http://www.microchip.com/stellent/groups/techpub_sg/documents/packagingspec/en012702.pdf
footprint MSOP-MS8_N (TSOP, 8-Leads, Body 3x3mm, Pitch 0.65mm, IPC Medium Density)
footprint MSOP-MS8_L (TSOP, 8-Leads, Body 3x3mm, Pitch 0.65mm, IPC High Density)
footprint MSOP-MS8_M (TSOP, 8-Leads, Body 3x3mm, Pitch 0.65mm, IPC Low Density)
pins: 1 VDD (power), 2 GP5/OSC1/CLKIN (io), 3 GP4/OSC2 (io), 4 GP3/~{MCLR}/VPP (io), 5 GP2/T0CKI (io), 6 GP1/ICSPCLK (io), 7 GP0/ICSPDAT (io), 8 VSS (power)

## PIC12F508-I/P
designator U?
8-bit Flash Microcontroller, 512 (x12-Bit words) Program Memory, 25 Bytes Data Memory, 8-Pin PDIP, Industrial Temperature; Manufacturer: Microchip; PartNumber: PIC12F508-I/P; DatasheetVersion: revE, Aug-2009; PackageVersion: revBB, Aug-2009; PackageReference: PDIP300-P8; PackageDescription: 8-Lead Plastic Dual In-Line (P) - 300 mil Body [PDIP]; Code_JEDEC: MS-001; ComponentLink1Description: Manufacturer URL; ComponentLink1URL: http://www.microchip.com/; ComponentLink2Description: Datasheet; ComponentLink2URL: http://ww1.microchip.com/downloads/en/DeviceDoc/41236E.pdf; ComponentLink3Description: Package Specification; ComponentLink3URL: http://www.microchip.com/stellent/groups/techpub_sg/documents/packagingspec/en012702.pdf
footprint PDIP300-P8 (DIP, 8-Leads, Row Spacing 7.62mm, Pitch 2.54mm, Body 9.5x6.6mm)
pins: 1 VDD (power), 2 GP5/OSC1/CLKIN (io), 3 GP4/OSC2 (io), 4 GP3/~{MCLR}/VPP (io), 5 GP2/T0CKI (io), 6 GP1/ICSPCLK (io), 7 GP0/ICSPDAT (io), 8 VSS (power)

## PIC12F508-I/SN
designator U?
8-bit Flash Microcontroller, 512 (x12-Bit words) Program Memory, 25 Bytes Data Memory, 8-Pin SOIC, Industrial Temperature; Manufacturer: Microchip; PartNumber: PIC12F508-I/SN; DatasheetVersion: revE, Aug-2009; PackageVersion: revBB, Aug-2009; PackageReference: SOIC-SN8; PackageDescription: 8-Lead Plastic Small Outline (SN) - Narrow, 3.90mm Body [SOIC]; Code_JEDEC: MS-012; Code_IPC: SOIC127P600-8; ComponentLink1Description: Manufacturer URL; ComponentLink1URL: http://www.microchip.com/; ComponentLink2Description: Datasheet; ComponentLink2URL: http://ww1.microchip.com/downloads/en/DeviceDoc/41236E.pdf; ComponentLink3Description: Package Specification; ComponentLink3URL: http://www.microchip.com/stellent/groups/techpub_sg/documents/packagingspec/en012702.pdf
footprint SOIC-SN8_N (SOIC, 8-Leads, Body 4.9x3.8mm, Pitch 1.27mm, IPC Medium Density)
footprint SOIC-SN8_L (SOIC, 8-Leads, Body 4.9x3.8mm, Pitch 1.27mm, IPC High Density)
footprint SOIC-SN8_M (SOIC, 8-Leads, Body 4.9x3.8mm, Pitch 1.27mm, IPC Low Density)
pins: 1 VDD (power), 2 GP5/OSC1/CLKIN (io), 3 GP4/OSC2 (io), 4 GP3/~{MCLR}/VPP (io), 5 GP2/T0CKI (io), 6 GP1/ICSPCLK (io), 7 GP0/ICSPDAT (io), 8 VSS (power)

## PIC12F508T-E/MS
designator U?
8-bit Flash Microcontroller, 512 (x12-Bit words) Program Memory, 25 Bytes Data Memory, 8-Pin MSOP, Extended Temperature, Tape and Reel; Manufacturer: Microchip; PartNumber: PIC12F508T-E/MS; DatasheetVersion: revE, Aug-2009; PackageVersion: revBB, Aug-2009; PackageReference: MSOP-MS8; PackageDescription: 8-Lead Plastic Micro Small Outline Package (MS) [MSOP]; ComponentLink1Description: Manufacturer URL; ComponentLink1URL: http://www.microchip.com/; ComponentLink2Description: Datasheet; ComponentLink2URL: http://ww1.microchip.com/downloads/en/DeviceDoc/41236E.pdf; ComponentLink3Description: Package Specification; ComponentLink3URL: http://www.microchip.com/stellent/groups/techpub_sg/documents/packagingspec/en012702.pdf
footprint MSOP-MS8_N (TSOP, 8-Leads, Body 3x3mm, Pitch 0.65mm, IPC Medium Density)
footprint MSOP-MS8_L (TSOP, 8-Leads, Body 3x3mm, Pitch 0.65mm, IPC High Density)
footprint MSOP-MS8_M (TSOP, 8-Leads, Body 3x3mm, Pitch 0.65mm, IPC Low Density)
pins: 1 VDD (power), 2 GP5/OSC1/CLKIN (io), 3 GP4/OSC2 (io), 4 GP3/~{MCLR}/VPP (io), 5 GP2/T0CKI (io), 6 GP1/ICSPCLK (io), 7 GP0/ICSPDAT (io), 8 VSS (power)

## PIC12F508T-E/SN
designator U?
8-bit Flash Microcontroller, 512 (x12-Bit words) Program Memory, 25 Bytes Data Memory, 8-Pin SOIC, Extended Temperature, Tape and Reel; Manufacturer: Microchip; PartNumber: PIC12F508T-E/SN; DatasheetVersion: revE, Aug-2009; PackageVersion: revBB, Aug-2009; PackageReference: SOIC-SN8; PackageDescription: 8-Lead Plastic Small Outline (SN) - Narrow, 3.90mm Body [SOIC]; Code_JEDEC: MS-012; Code_IPC: SOIC127P600-8; ComponentLink1Description: Manufacturer URL; ComponentLink1URL: http://www.microchip.com/; ComponentLink2Description: Datasheet; ComponentLink2URL: http://ww1.microchip.com/downloads/en/DeviceDoc/41236E.pdf; ComponentLink3Description: Package Specification; ComponentLink3URL: http://www.microchip.com/stellent/groups/techpub_sg/documents/packagingspec/en012702.pdf
footprint SOIC-SN8_N (SOIC, 8-Leads, Body 4.9x3.8mm, Pitch 1.27mm, IPC Medium Density)
footprint SOIC-SN8_L (SOIC, 8-Leads, Body 4.9x3.8mm, Pitch 1.27mm, IPC High Density)
footprint SOIC-SN8_M (SOIC, 8-Leads, Body 4.9x3.8mm, Pitch 1.27mm, IPC Low Density)
pins: 1 VDD (power), 2 GP5/OSC1/CLKIN (io), 3 GP4/OSC2 (io), 4 GP3/~{MCLR}/VPP (io), 5 GP2/T0CKI (io), 6 GP1/ICSPCLK (io), 7 GP0/ICSPDAT (io), 8 VSS (power)

## PIC12F508T-I/MC
designator U?
8-bit Flash Microcontroller, 512 (x12-Bit words) Program Memory, 25 Bytes Data Memory, 8-Pin DFN, Industrial Temperature, Tape and Reel; Manufacturer: Microchip; PartNumber: PIC12F508T-I/MC; DatasheetVersion: revE, Aug-2009; PackageVersion: revBB, Aug-2009; PackageReference: DFN-MC8; PackageDescription: 8-Lead Plastic Dual Flat, No Lead Package (MC) - 2x3x0.9mm Body [DFN]; ComponentLink1Description: Manufacturer URL; ComponentLink1URL: http://www.microchip.com/; ComponentLink2Description: Datasheet; ComponentLink2URL: http://ww1.microchip.com/downloads/en/DeviceDoc/41236E.pdf; ComponentLink3Description: Package Specification; ComponentLink3URL: http://www.microchip.com/stellent/groups/techpub_sg/documents/packagingspec/en012702.pdf
footprint DFN-MC8 (SON, 8-Leads, Body 2x3mm, Pitch 0.5mm, Microchip Recommended)
pins: 1 VDD (power), 2 GP5/OSC1/CLKIN (io), 3 GP4/OSC2 (io), 4 GP3/~{MCLR}/VPP (io), 5 GP2/T0CKI (io), 6 GP1/ICSPCLK (io), 7 GP0/ICSPDAT (io), 8 VSS (power), 9 Thermal Pad

## PIC12F508T-I/MS
designator U?
8-bit Flash Microcontroller, 512 (x12-Bit words) Program Memory, 25 Bytes Data Memory, 8-Pin MSOP, Industrial Temperature, Tape and Reel; Manufacturer: Microchip; PartNumber: PIC12F508T-I/MS; DatasheetVersion: revE, Aug-2009; PackageVersion: revBB, Aug-2009; PackageReference: MSOP-MS8; PackageDescription: 8-Lead Plastic Micro Small Outline Package (MS) [MSOP]; ComponentLink1Description: Manufacturer URL; ComponentLink1URL: http://www.microchip.com/; ComponentLink2Description: Datasheet; ComponentLink2URL: http://ww1.microchip.com/downloads/en/DeviceDoc/41236E.pdf; ComponentLink3Description: Package Specification; ComponentLink3URL: http://www.microchip.com/stellent/groups/techpub_sg/documents/packagingspec/en012702.pdf
footprint MSOP-MS8_N (TSOP, 8-Leads, Body 3x3mm, Pitch 0.65mm, IPC Medium Density)
footprint MSOP-MS8_L (TSOP, 8-Leads, Body 3x3mm, Pitch 0.65mm, IPC High Density)
footprint MSOP-MS8_M (TSOP, 8-Leads, Body 3x3mm, Pitch 0.65mm, IPC Low Density)
pins: 1 VDD (power), 2 GP5/OSC1/CLKIN (io), 3 GP4/OSC2 (io), 4 GP3/~{MCLR}/VPP (io), 5 GP2/T0CKI (io), 6 GP1/ICSPCLK (io), 7 GP0/ICSPDAT (io), 8 VSS (power)

## PIC12F508T-I/SN
designator U?
8-bit Flash Microcontroller, 512 (x12-Bit words) Program Memory, 25 Bytes Data Memory, 8-Pin SOIC, Industrial Temperature, Tape and Reel; Manufacturer: Microchip; PartNumber: PIC12F508T-I/SN; DatasheetVersion: revE, Aug-2009; PackageVersion: revBB, Aug-2009; PackageReference: SOIC-SN8; PackageDescription: 8-Lead Plastic Small Outline (SN) - Narrow, 3.90mm Body [SOIC]; Code_JEDEC: MS-012; Code_IPC: SOIC127P600-8; ComponentLink1Description: Manufacturer URL; ComponentLink1URL: http://www.microchip.com/; ComponentLink2Description: Datasheet; ComponentLink2URL: http://ww1.microchip.com/downloads/en/DeviceDoc/41236E.pdf; ComponentLink3Description: Package Specification; ComponentLink3URL: http://www.microchip.com/stellent/groups/techpub_sg/documents/packagingspec/en012702.pdf
footprint SOIC-SN8_N (SOIC, 8-Leads, Body 4.9x3.8mm, Pitch 1.27mm, IPC Medium Density)
footprint SOIC-SN8_L (SOIC, 8-Leads, Body 4.9x3.8mm, Pitch 1.27mm, IPC High Density)
footprint SOIC-SN8_M (SOIC, 8-Leads, Body 4.9x3.8mm, Pitch 1.27mm, IPC Low Density)
pins: 1 VDD (power), 2 GP5/OSC1/CLKIN (io), 3 GP4/OSC2 (io), 4 GP3/~{MCLR}/VPP (io), 5 GP2/T0CKI (io), 6 GP1/ICSPCLK (io), 7 GP0/ICSPDAT (io), 8 VSS (power)

## PIC12F509-E/MC
designator U?
8-bit Flash Microcontroller, 1K (x12-Bit words) Program Memory, 41 Bytes Data Memory, 8-Pin DFN, Extended Temperature; Manufacturer: Microchip; PartNumber: PIC12F509-E/MC; DatasheetVersion: revE, Aug-2009; PackageVersion: revBB, Aug-2009; PackageReference: DFN-MC8; PackageDescription: 8-Lead Plastic Dual Flat, No Lead Package (MC) - 2x3x0.9mm Body [DFN]; ComponentLink1Description: Manufacturer URL; ComponentLink1URL: http://www.microchip.com/; ComponentLink2Description: Datasheet; ComponentLink2URL: http://ww1.microchip.com/downloads/en/DeviceDoc/41236E.pdf; ComponentLink3Description: Package Specification; ComponentLink3URL: http://www.microchip.com/stellent/groups/techpub_sg/documents/packagingspec/en012702.pdf
footprint DFN-MC8 (SON, 8-Leads, Body 2x3mm, Pitch 0.5mm, Microchip Recommended)
pins: 1 VDD (power), 2 GP5/OSC1/CLKIN (io), 3 GP4/OSC2 (io), 4 GP3/~{MCLR}/VPP (io), 5 GP2/T0CKI (io), 6 GP1/ICSPCLK (io), 7 GP0/ICSPDAT (io), 8 VSS (power), 9 Thermal Pad

## PIC12F509-E/MS
designator U?
8-bit Flash Microcontroller, 1K (x12-Bit words) Program Memory, 41 Bytes Data Memory, 8-Pin MSOP, Extended Temperature; Manufacturer: Microchip; PartNumber: PIC12F509-E/MS; DatasheetVersion: revE, Aug-2009; PackageVersion: revBB, Aug-2009; PackageReference: MSOP-MS8; PackageDescription: 8-Lead Plastic Micro Small Outline Package (MS) [MSOP]; ComponentLink1Description: Manufacturer URL; ComponentLink1URL: http://www.microchip.com/; ComponentLink2Description: Datasheet; ComponentLink2URL: http://ww1.microchip.com/downloads/en/DeviceDoc/41236E.pdf; ComponentLink3Description: Package Specification; ComponentLink3URL: http://www.microchip.com/stellent/groups/techpub_sg/documents/packagingspec/en012702.pdf
footprint MSOP-MS8_N (TSOP, 8-Leads, Body 3x3mm, Pitch 0.65mm, IPC Medium Density)
footprint MSOP-MS8_L (TSOP, 8-Leads, Body 3x3mm, Pitch 0.65mm, IPC High Density)
footprint MSOP-MS8_M (TSOP, 8-Leads, Body 3x3mm, Pitch 0.65mm, IPC Low Density)
pins: 1 VDD (power), 2 GP5/OSC1/CLKIN (io), 3 GP4/OSC2 (io), 4 GP3/~{MCLR}/VPP (io), 5 GP2/T0CKI (io), 6 GP1/ICSPCLK (io), 7 GP0/ICSPDAT (io), 8 VSS (power)

## PIC12F509-E/P
designator U?
8-bit Flash Microcontroller, 1K (x12-Bit words) Program Memory, 41 Bytes Data Memory, 8-Pin PDIP, Extended Temperature; Manufacturer: Microchip; PartNumber: PIC12F509-E/P; DatasheetVersion: revE, Aug-2009; PackageVersion: revBB, Aug-2009; PackageReference: PDIP300-P8; PackageDescription: 8-Lead Plastic Dual In-Line (P) - 300 mil Body [PDIP]; Code_JEDEC: MS-001; ComponentLink1Description: Manufacturer URL; ComponentLink1URL: http://www.microchip.com/; ComponentLink2Description: Datasheet; ComponentLink2URL: http://ww1.microchip.com/downloads/en/DeviceDoc/41236E.pdf; ComponentLink3Description: Package Specification; ComponentLink3URL: http://www.microchip.com/stellent/groups/techpub_sg/documents/packagingspec/en012702.pdf
footprint PDIP300-P8 (DIP, 8-Leads, Row Spacing 7.62mm, Pitch 2.54mm, Body 9.5x6.6mm)
pins: 1 VDD (power), 2 GP5/OSC1/CLKIN (io), 3 GP4/OSC2 (io), 4 GP3/~{MCLR}/VPP (io), 5 GP2/T0CKI (io), 6 GP1/ICSPCLK (io), 7 GP0/ICSPDAT (io), 8 VSS (power)

## PIC12F509-E/SM
designator U?
8-bit Flash Microcontroller, 1K (x12-Bit words) Program Memory, 41 Bytes Data Memory, 8-Pin SOIC, Extended Temperature; Manufacturer: Microchip; PartNumber: PIC12F509-E/SM; DatasheetVersion: revE, Aug-2009; PackageVersion: revBB, Aug-2009; PackageReference: SOIJ-SM8; PackageDescription: 8-Lead Plastic Small Outline (SM) - Medium, 5.28 mm Body [SOIJ]; ComponentLink1Description: Manufacturer URL; ComponentLink1URL: http://www.microchip.com/; ComponentLink2Description: Datasheet; ComponentLink2URL: http://ww1.microchip.com/downloads/en/DeviceDoc/41236E.pdf; ComponentLink3Description: Package Specification; ComponentLink3URL: http://www.microchip.com/stellent/groups/techpub_sg/documents/packagingspec/en012702.pdf
footprint SOIJ-SM8_N (SOP, 8-Leads, Body 5.2x5.2mm, Pitch 1.27mm, IPC Medium Density)
footprint SOIJ-SM8_L (SOP, 8-Leads, Body 5.2x5.2mm, Pitch 1.27mm, IPC High Density)
footprint SOIJ-SM8_M (SOP, 8-Leads, Body 5.2x5.2mm, Pitch 1.27mm, IPC Low Density)
pins: 1 VDD (power), 2 GP5/OSC1/CLKIN (io), 3 GP4/OSC2 (io), 4 GP3/~{MCLR}/VPP (io), 5 GP2/T0CKI (io), 6 GP1/ICSPCLK (io), 7 GP0/ICSPDAT (io), 8 VSS (power)

## PIC12F509-E/SN
designator U?
8-bit Flash Microcontroller, 1K (x12-Bit words) Program Memory, 41 Bytes Data Memory, 8-Pin SOIC, Extended Temperature; Manufacturer: Microchip; PartNumber: PIC12F509-E/SN; DatasheetVersion: revE, Aug-2009; PackageVersion: revBB, Aug-2009; PackageReference: SOIC-SN8; PackageDescription: 8-Lead Plastic Small Outline (SN) - Narrow, 3.90mm Body [SOIC]; Code_JEDEC: MS-012; Code_IPC: SOIC127P600-8; ComponentLink1Description: Manufacturer URL; ComponentLink1URL: http://www.microchip.com/; ComponentLink2Description: Datasheet; ComponentLink2URL: http://ww1.microchip.com/downloads/en/DeviceDoc/41236E.pdf; ComponentLink3Description: Package Specification; ComponentLink3URL: http://www.microchip.com/stellent/groups/techpub_sg/documents/packagingspec/en012702.pdf
footprint SOIC-SN8_N (SOIC, 8-Leads, Body 4.9x3.8mm, Pitch 1.27mm, IPC Medium Density)
footprint SOIC-SN8_L (SOIC, 8-Leads, Body 4.9x3.8mm, Pitch 1.27mm, IPC High Density)
footprint SOIC-SN8_M (SOIC, 8-Leads, Body 4.9x3.8mm, Pitch 1.27mm, IPC Low Density)
pins: 1 VDD (power), 2 GP5/OSC1/CLKIN (io), 3 GP4/OSC2 (io), 4 GP3/~{MCLR}/VPP (io), 5 GP2/T0CKI (io), 6 GP1/ICSPCLK (io), 7 GP0/ICSPDAT (io), 8 VSS (power)

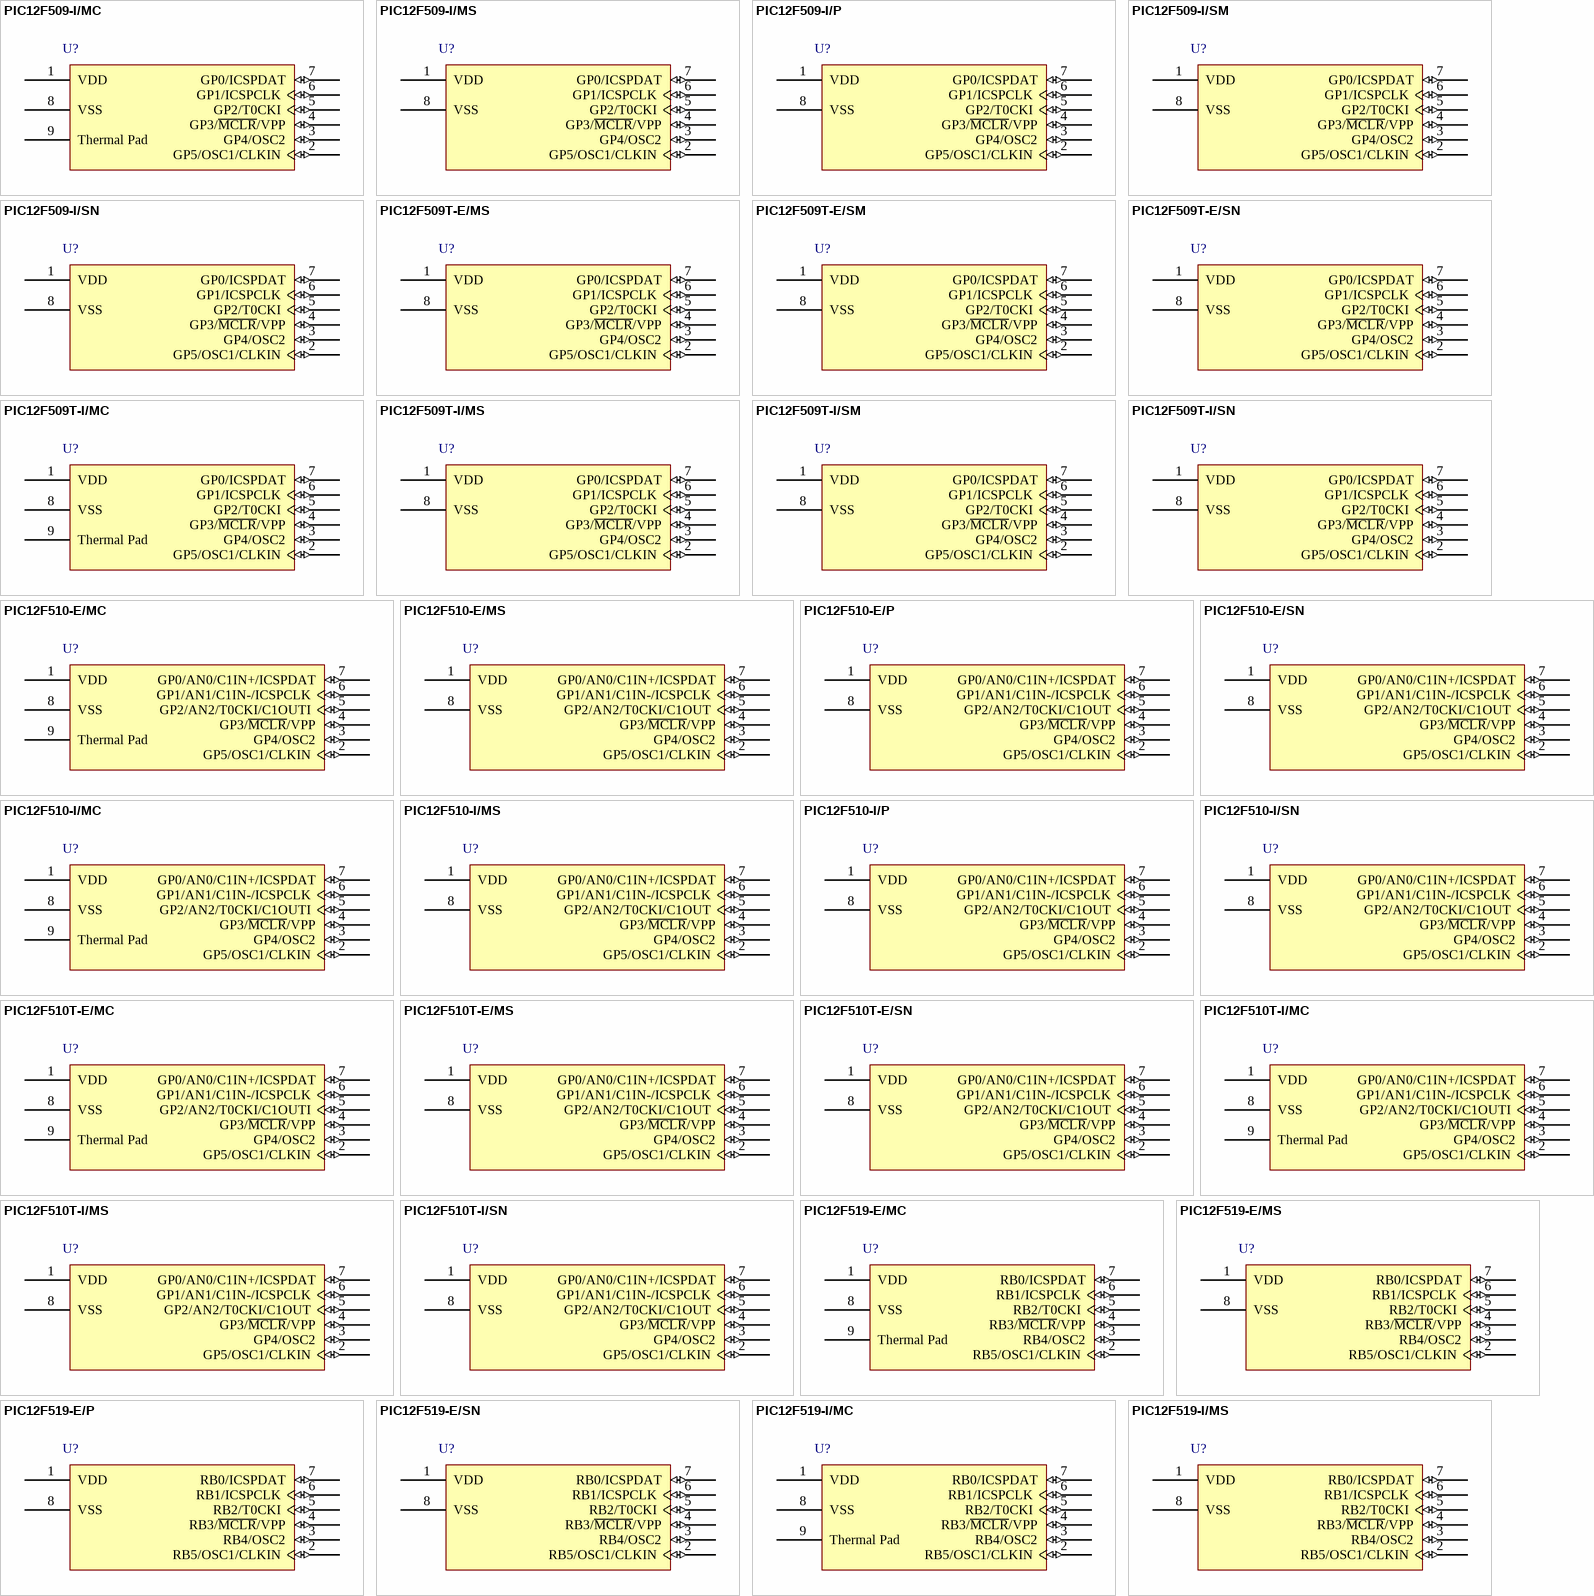
[diagram p4: symbols PIC12F509-I/MC to PIC12F519-I/MS]

## PIC12F509-I/MC
designator U?
8-bit Flash Microcontroller, 1K (x12-Bit words) Program Memory, 41 Bytes Data Memory, 8-Pin DFN, Industrial Temperature; Manufacturer: Microchip; PartNumber: PIC12F509-I/MC; DatasheetVersion: revE, Aug-2009; PackageVersion: revBB, Aug-2009; PackageReference: DFN-MC8; PackageDescription: 8-Lead Plastic Dual Flat, No Lead Package (MC) - 2x3x0.9mm Body [DFN]; ComponentLink1Description: Manufacturer URL; ComponentLink1URL: http://www.microchip.com/; ComponentLink2Description: Datasheet; ComponentLink2URL: http://ww1.microchip.com/downloads/en/DeviceDoc/41236E.pdf; ComponentLink3Description: Package Specification; ComponentLink3URL: http://www.microchip.com/stellent/groups/techpub_sg/documents/packagingspec/en012702.pdf
footprint DFN-MC8 (SON, 8-Leads, Body 2x3mm, Pitch 0.5mm, Microchip Recommended)
pins: 1 VDD (power), 2 GP5/OSC1/CLKIN (io), 3 GP4/OSC2 (io), 4 GP3/~{MCLR}/VPP (io), 5 GP2/T0CKI (io), 6 GP1/ICSPCLK (io), 7 GP0/ICSPDAT (io), 8 VSS (power), 9 Thermal Pad

## PIC12F509-I/MS
designator U?
8-bit Flash Microcontroller, 1K (x12-Bit words) Program Memory, 41 Bytes Data Memory, 8-Pin MSOP, Industrial Temperature; Manufacturer: Microchip; PartNumber: PIC12F509-I/MS; DatasheetVersion: revE, Aug-2009; PackageVersion: revBB, Aug-2009; PackageReference: MSOP-MS8; PackageDescription: 8-Lead Plastic Micro Small Outline Package (MS) [MSOP]; ComponentLink1Description: Manufacturer URL; ComponentLink1URL: http://www.microchip.com/; ComponentLink2Description: Datasheet; ComponentLink2URL: http://ww1.microchip.com/downloads/en/DeviceDoc/41236E.pdf; ComponentLink3Description: Package Specification; ComponentLink3URL: http://www.microchip.com/stellent/groups/techpub_sg/documents/packagingspec/en012702.pdf
footprint MSOP-MS8_N (TSOP, 8-Leads, Body 3x3mm, Pitch 0.65mm, IPC Medium Density)
footprint MSOP-MS8_L (TSOP, 8-Leads, Body 3x3mm, Pitch 0.65mm, IPC High Density)
footprint MSOP-MS8_M (TSOP, 8-Leads, Body 3x3mm, Pitch 0.65mm, IPC Low Density)
pins: 1 VDD (power), 2 GP5/OSC1/CLKIN (io), 3 GP4/OSC2 (io), 4 GP3/~{MCLR}/VPP (io), 5 GP2/T0CKI (io), 6 GP1/ICSPCLK (io), 7 GP0/ICSPDAT (io), 8 VSS (power)

## PIC12F509-I/P
designator U?
8-bit Flash Microcontroller, 1K (x12-Bit words) Program Memory, 41 Bytes Data Memory, 8-Pin PDIP, Industrial Temperature; Manufacturer: Microchip; PartNumber: PIC12F509-I/P; DatasheetVersion: revE, Aug-2009; PackageVersion: revBB, Aug-2009; PackageReference: PDIP300-P8; PackageDescription: 8-Lead Plastic Dual In-Line (P) - 300 mil Body [PDIP]; Code_JEDEC: MS-001; ComponentLink1Description: Manufacturer URL; ComponentLink1URL: http://www.microchip.com/; ComponentLink2Description: Datasheet; ComponentLink2URL: http://ww1.microchip.com/downloads/en/DeviceDoc/41236E.pdf; ComponentLink3Description: Package Specification; ComponentLink3URL: http://www.microchip.com/stellent/groups/techpub_sg/documents/packagingspec/en012702.pdf
footprint PDIP300-P8 (DIP, 8-Leads, Row Spacing 7.62mm, Pitch 2.54mm, Body 9.5x6.6mm)
pins: 1 VDD (power), 2 GP5/OSC1/CLKIN (io), 3 GP4/OSC2 (io), 4 GP3/~{MCLR}/VPP (io), 5 GP2/T0CKI (io), 6 GP1/ICSPCLK (io), 7 GP0/ICSPDAT (io), 8 VSS (power)

## PIC12F509-I/SM
designator U?
8-bit Flash Microcontroller, 1K (x12-Bit words) Program Memory, 41 Bytes Data Memory, 8-Pin SOIC, Industrial Temperature; Manufacturer: Microchip; PartNumber: PIC12F509-I/SM; DatasheetVersion: revE, Aug-2009; PackageVersion: revBB, Aug-2009; PackageReference: SOIJ-SM8; PackageDescription: 8-Lead Plastic Small Outline (SM) - Medium, 5.28 mm Body [SOIJ]; ComponentLink1Description: Manufacturer URL; ComponentLink1URL: http://www.microchip.com/; ComponentLink2Description: Datasheet; ComponentLink2URL: http://ww1.microchip.com/downloads/en/DeviceDoc/41236E.pdf; ComponentLink3Description: Package Specification; ComponentLink3URL: http://www.microchip.com/stellent/groups/techpub_sg/documents/packagingspec/en012702.pdf
footprint SOIJ-SM8_N (SOP, 8-Leads, Body 5.2x5.2mm, Pitch 1.27mm, IPC Medium Density)
footprint SOIJ-SM8_L (SOP, 8-Leads, Body 5.2x5.2mm, Pitch 1.27mm, IPC High Density)
footprint SOIJ-SM8_M (SOP, 8-Leads, Body 5.2x5.2mm, Pitch 1.27mm, IPC Low Density)
pins: 1 VDD (power), 2 GP5/OSC1/CLKIN (io), 3 GP4/OSC2 (io), 4 GP3/~{MCLR}/VPP (io), 5 GP2/T0CKI (io), 6 GP1/ICSPCLK (io), 7 GP0/ICSPDAT (io), 8 VSS (power)